# EAGLE library part ULN2803 (library doz)
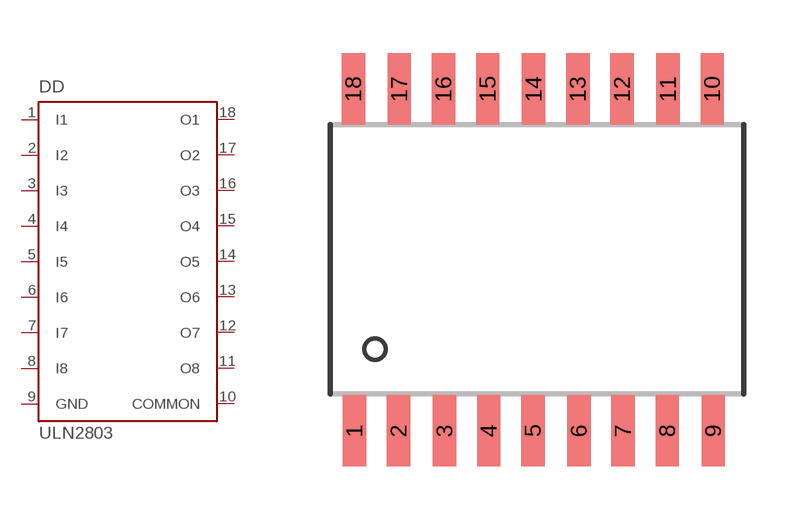
[diagram p13: symbol with the pads of SO18; footprint SO18]

Designator prefix DD

## ULN2803AFWG  [SO18]
1  I1  in
2  I2  in
3  I3  in
4  I4  in
5  I5  in
6  I6  in
7  I7  in
8  I8  in
9  GND  in
10  COMMON  in
11  O8  in
12  O7  in
13  O6  in
14  O5  in
15  O4  in
16  O3  in
17  O2  in
18  O1  in

## Footprint SO18 (pad centres in mm)
smd 0.66 x 2.032: 1 0.69,-1.038; 2 1.94,-1.038; 3 3.24,-1.038; 4 4.49,-1.038; 5 5.74,-1.038; 6 7.04,-1.038; 7 8.29,-1.038; 8 9.54,-1.038; 9 10.84,-1.038; 10 10.81,8.638; 11 9.56,8.638; 12 8.26,8.638; 13 7.01,8.638; 14 5.76,8.638; 15 4.46,8.638; 16 3.21,8.638; 17 1.96,8.638; 18 0.66,8.638